# Altium schematic symbol library mechanical.SchLib: 1 symbol
Pins are listed as number, name and electrical type; pins without a type are passive.

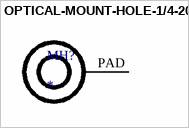
[diagram p0: symbol OPTICAL-MOUNT-HOLE-1/4-20]

## OPTICAL-MOUNT-HOLE-1/4-20
designator MH?
footprint MH-1/4-20
pins: PAD